# EAGLE library part 691305140008 (library Rover_bib)
Serie 3051 - 3.50mm Horizontal PCB Header w. Plastic Latch WR-TBL KIND PROPERTIES: Standard Polarities 02;?03;?04;?05;?06;?07;?08;?12 Pitch 3.5 mm MATERIAL PROPERTIES: Insulator Material PA66 Insulator Color Green Insulator Flammability Rating UL94-V0 Contact Material Copper Alloy Contact Plating Tin GENERAL PROPERTIES: Operating Temperature -40 °C up to +105 °C Compliance Lead free / RoHS <http://katalog.we-online.de/media/images/v2/Family_WR-TBL3_6913051400xx.jpg> Details see: http://katalog.we-online.de/en/em/TBL_3_50_3051_HORIZONTAL_PCB_HEADER_6913051400xx/691305140012?m Created 2017-06-22, Yignchun,Shan 2017 (C) Würth Elektronik
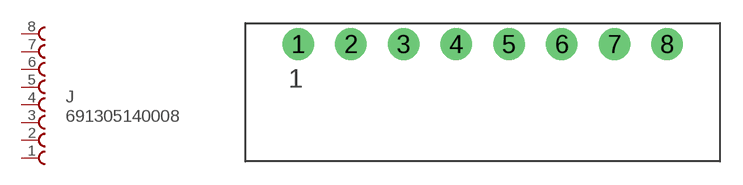
[diagram p3: symbol with the pads of 691305140008; footprint 691305140008]

Designator prefix J

## 691305140008  [691305140008]
1  8  pas
2  7  pas
3  6  pas
4  5  pas
5  4  pas
6  3  pas
7  2  pas
8  1  pas

## Footprint 691305140008 (pad centres in mm)
drill 1.4: 1 -12.25,0; 2 -8.75,0; 3 -5.25,0; 4 -1.75,0; 5 1.75,0; 6 5.25,0; 7 8.75,0; 8 12.25,0